# Altium schematic symbol library MIC9407XYC6.SchLib: 1 symbol
Pins are listed as number, name and electrical type; pins without a type are passive.

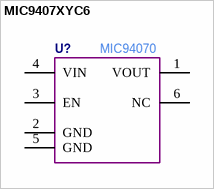
[diagram p0: symbol MIC9407XYC6]

## MIC9407XYC6
designator U?  Manufacturer Part Number: MIC94070  (hidden comment: *)
pins: 1 VOUT, 2 GND, 3 EN, 4 VIN, 5 GND, 6 NC